# Altium footprint library PCB - DIODES - NEXPERIA DFN1608D-2 SOD1608.PCBLIB: 1 footprints
Each footprint in its own frame and in the unit in brackets; x right, y up, seen from the top. Pads: shape width x height; smd on the part's side, far side on the other; paste and mask are expansions set on the pad; w line width, h text height; cw(c..) or ccw(c..) is an arc to the next point about the centre after c.
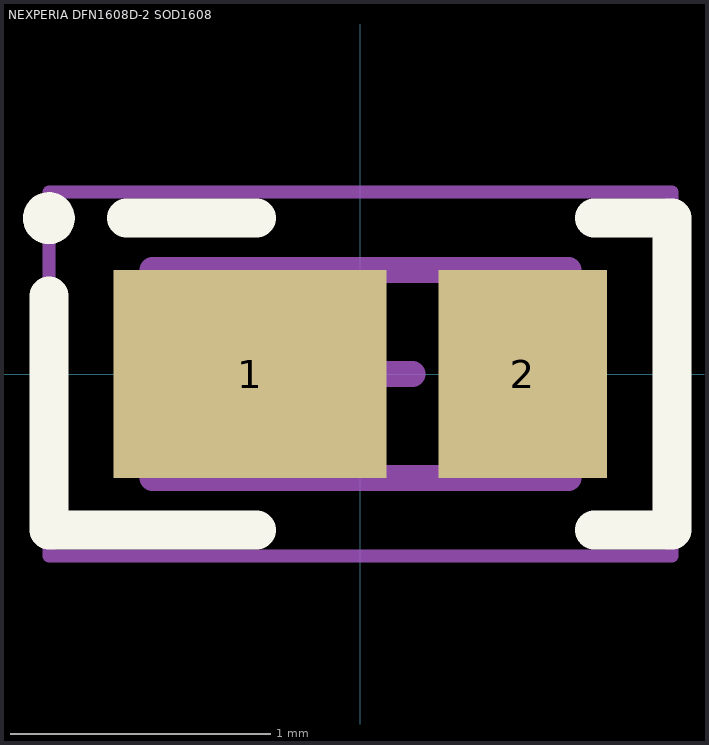
[diagram p0: the footprint, top view; thin cyan lines are the x and y axes]

## NEXPERIA DFN1608D-2 SOD1608 [mm] "DFN1608D-2 SOD1608"
height 0.4
pads (2):
  rect 1.05x0.8 smd: 1(-0.425,0)
  rect 0.65x0.8 smd: 2(0.625,0)
Top Overlay:
  circle w0.1: c-1.2,0.6 r0.05
  lines w0.15: -1.2,0.3 -1.2,-0.6 -0.4,-0.6 ; -0.9,0.6 -0.4,0.6 ; 0.9,-0.6 1.2,-0.6 1.2,0.6 1.1,0.6 0.9,0.6
Mechanical 13:
  lines w0.1: -0.8,-0.4 -0.8,0.4 0.8,0.4 0.8,-0.4 -0.8,-0.4
Mechanical 15:
  lines w0.05: -1.2,-0.7 -1.2,0.7 1.2,0.7 1.2,-0.7 -1.2,-0.7
  lines w0.1: -0.2,0 0.2,0 ; 0,-0.2 0,0.2
3D body "NEXPERIA - DFN1608D-2 SOD1608.step": height 0.4, standoff 0, extent -0.82,-0.405 0.82,0.405